# EAGLE library part HDMI (library PP_Connectors)
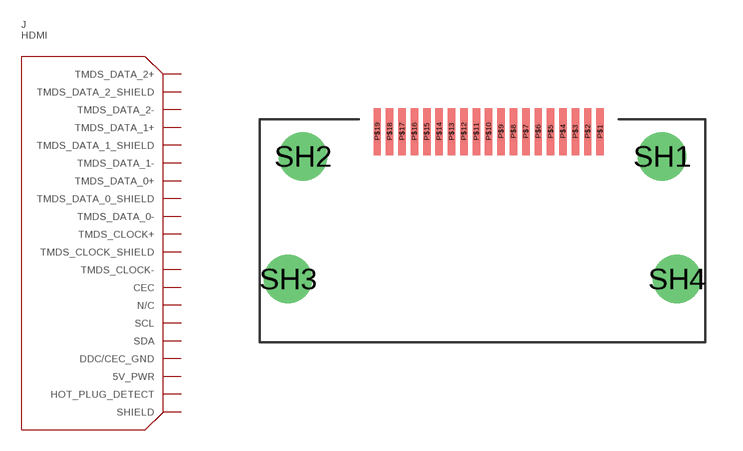
[diagram p26: symbol with the pads of 10029449-111RLF; footprint 10029449-111RLF]

Designator prefix J

## HDMI_10029449-111RLF  [10029449-111RLF]
P$1  TMDS_DATA_2+
P$2  TMDS_DATA_2_SHIELD
P$3  TMDS_DATA_2-
P$4  TMDS_DATA_1+
P$5  TMDS_DATA_1_SHIELD
P$6  TMDS_DATA_1-
P$7  TMDS_DATA_0+
P$8  TMDS_DATA_0_SHIELD
P$9  TMDS_DATA_0-
P$10  TMDS_CLOCK+
P$11  TMDS_CLOCK_SHIELD
P$12  TMDS_CLOCK-
P$13  CEC
P$14  N/C
P$15  SCL
P$16  SDA
P$17  DDC/CEC_GND
P$18  5V_PWR
P$19  HOT_PLUG_DETECT
SH1  SHIELD
SH2  SHIELD
SH3  SHIELD
SH4  SHIELD

## Footprint 10029449-111RLF (pad centres in mm)
smd 0.3 x 1.9: P$1 4.75,8.5; P$2 4.25,8.5; P$3 3.75,8.5; P$4 3.25,8.5; P$5 2.75,8.5; P$6 2.25,8.5; P$7 1.75,8.5; P$8 1.25,8.5; P$9 0.75,8.5; P$10 0.25,8.5; P$11 -0.25,8.5; P$12 -0.75,8.5; P$13 -1.25,8.5; P$14 -1.75,8.5; P$15 -2.25,8.5; P$16 -2.75,8.5; P$17 -3.25,8.5; P$18 -3.75,8.5; P$19 -4.25,8.5
drill 1.3: SH1 7.25,7.5; SH2 -7.25,7.5; SH3 -7.85,2.55; SH4 7.85,2.55